# Altium footprint library PIPE_TOP_ONLY.PcbLib: 1 footprints
Each footprint in its own frame and in the unit in brackets; x right, y up, seen from the top. Pads: shape width x height; smd on the part's side, far side on the other; paste and mask are expansions set on the pad; w line width, h text height; cw(c..) or ccw(c..) is an arc to the next point about the centre after c.
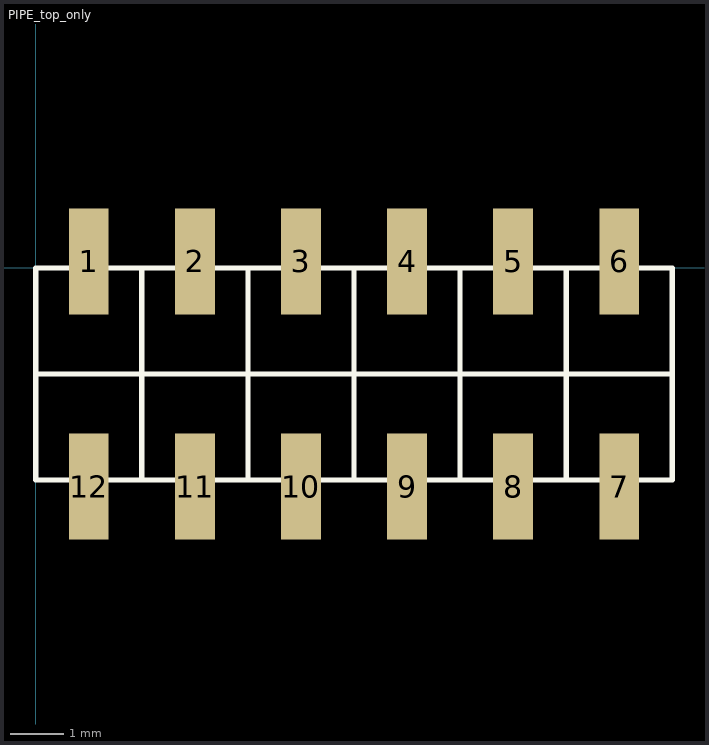
[diagram p0: the footprint, top view; thin cyan lines are the x and y axes]

## PIPE_top_only [mm]
pads (12):
  rect 0.75x2 smd: 1(1,0.125) 2(3,0.125) 3(5,0.125) 4(7,0.125) 5(9,0.125) 6(11,0.125) 7(11,-4.125) 8(9,-4.125) 9(7,-4.125) 10(5,-4.125) 11(3,-4.125) 12(1,-4.125)
Top Overlay:
  lines w0.1: 2,-4 2,0 ; 4,-4 4,0 ; 6,-4 6,0 ; 8,-4 8,0 ; 10,-4 10,0 ; 0,-2 0,-4 12,-4 12,-2 ; 0,-2 12,-2 ; 0,-2 12,-2 ; 0,-2 0,0 12,0 12,-2